# EAGLE library part THS7530 (library components)
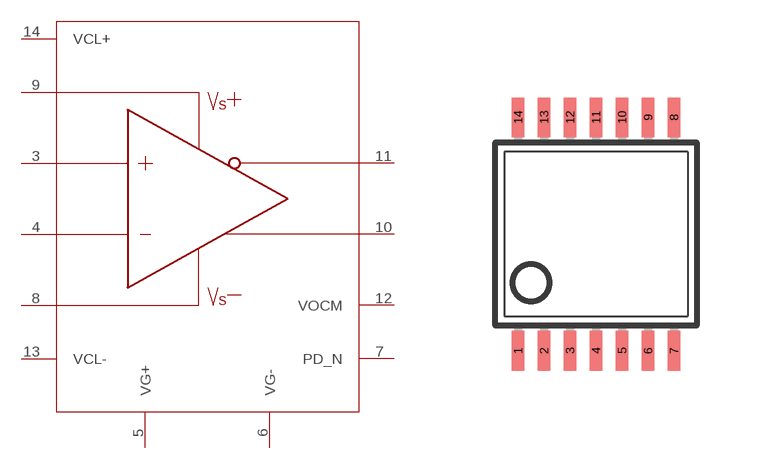
[diagram p4: symbol with the pads of TSSOP14; footprint TSSOP14]

Designator prefix -

## THS7530  [TSSOP14]
3  P$3  in
4  P$4  in
5  VG+  in
6  VG-  in
7  PD_N  in
8  P$8  in
9  P$9  in
10  VO+  out
11  VO-  out
12  VOCM  in
13  VCL-  in
14  VCL+  in

## Footprint TSSOP14 (pad centres in mm)
Thin Shrink Small Outline Plastic 14 MAX3223-MAX3243.pdf
smd 0.305 x 0.991: 1 -1.95,-2.918; 2 -1.3,-2.918; 3 -0.65,-2.918; 4 0,-2.918; 5 0.65,-2.918; 6 1.3,-2.918; 7 1.95,-2.918; 8 1.95,2.918; 9 1.3,2.918; 10 0.65,2.918; 11 0,2.918; 12 -0.65,2.918; 13 -1.3,2.918; 14 -1.95,2.918